# Altium footprint library SLA05VDCSLC.PcbLib: 1 footprints
Each footprint in its own frame and in the unit in brackets; x right, y up, seen from the top. Pads: shape width x height; smd on the part's side, far side on the other; paste and mask are expansions set on the pad; w line width, h text height; cw(c..) or ccw(c..) is an arc to the next point about the centre after c.
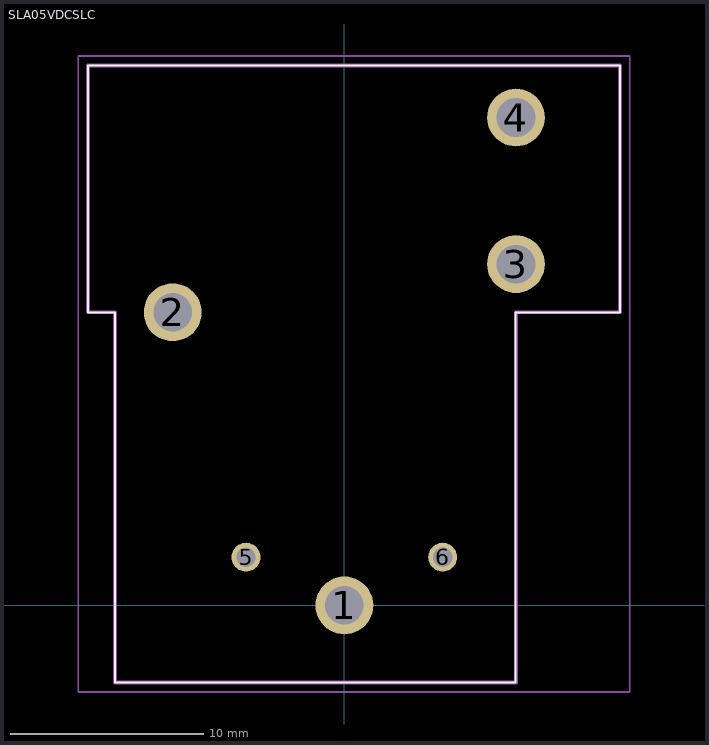
[diagram p0: the footprint, top view; thin cyan lines are the x and y axes]

## SLA05VDCSLC [mm]
pads (6):
  round 3 hole 2: 1(0,0) 2(-8.9,15.2) 3(8.9,17.7) 4(8.9,25.3)
  round 1.5 hole 1: 5(-5.1,2.5) 6(5.1,2.5)
Top Overlay:
  lines w0.1: -13.3,15.2 -13.3,28 14.3,28 14.3,15.2 8.88,15.2 8.88,-4 -11.9,-4 -11.9,15.2 -13.3,15.2
Mechanical 15:
  lines w0.2: -13.3,15.2 -13.3,28 14.3,28 14.3,15.2 8.9,15.2 8.9,-4 -11.9,-4 -11.9,15.2 -13.3,15.2
Mechanical 20:
  lines w0.1: -13.8,-4.5 14.8,-4.5 14.8,28.5 -13.8,28.5 -13.8,-4.5